# EAGLE library part PCA9685 (library Library)
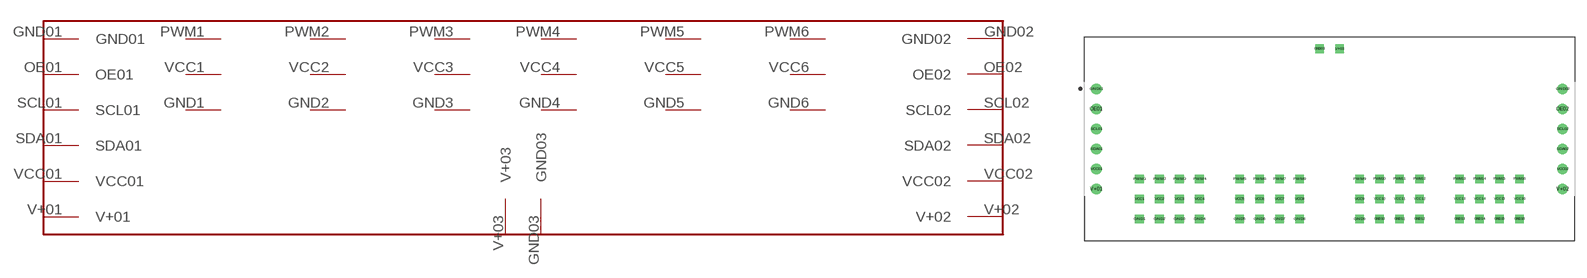
[diagram p1: symbol with the pads of DIP5918W53P254L2279H300Q12B; footprint DIP5918W53P254L2279H300Q12B]

Designator prefix -

## PCA9685PCA9685  [DIP5918W53P254L2279H300Q12B]
GND1  GND$1
GND01  GND01
GND2  GND$2
GND02  GND02
GND3  GND$3
GND03  GND03
GND4  GND$4
GND5  GND$5
GND6  GND$6
OE01  OE01
OE02  OE02
PWM1  PWM$1
PWM2  PWM$2
PWM3  PWM$3
PWM4  PWM$4
PWM5  PWM$5
PWM6  PWM$6
SCL01  SCL01
SCL02  SCL02
SDA01  SDA01
SDA02  SDA02
V+01  V+01
V+02  V+02
V+03  V+03
VCC1  VCC$1
VCC01  VCC01
VCC2  VCC$2
VCC02  VCC02
VCC3  VCC$3
VCC4  VCC$4
VCC5  VCC$5
VCC6  VCC$6

## Footprint DIP5918W53P254L2279H300Q12B (pad centres in mm)
12-DIP, 2.54 mm (0.10 in) pitch, 59.18 mm (2.33 in) span, 22.80 X 34.41 X 3.00 mm body 12-pin DIP package with 2.54 mm (0.10 in) pitch, 59.18 mm (2.33 in) span with body size 22.80 X 34.41 X 3.00 mm
drill 0.743 pad 1.343: GND01 -29.591,6.35; GND02 29.591,6.35; OE01 -29.591,3.81; OE02 29.591,3.81; SCL01 -29.591,1.27; SCL02 29.591,1.27; SDA01 -29.591,-1.27; SDA02 29.591,-1.27; V+01 -29.591,-6.35; V+02 29.591,-6.35; VCC01 -29.591,-3.81; VCC02 29.591,-3.81
drill 0.6 square: GND1 -24.13,-10.16; GND2 -21.59,-10.16; GND3 -19.05,-10.16; GND03 -1.27,11.43; GND4 -16.51,-10.16; GND5 -11.43,-10.16; GND6 -8.89,-10.16; GND7 -6.35,-10.16; GND8 -3.81,-10.16; GND9 3.81,-10.16; GND10 6.35,-10.16; GND11 8.89,-10.16; GND12 11.43,-10.16; GND13 16.51,-10.16; GND14 19.05,-10.16; GND15 21.59,-10.16; GND16 24.13,-10.16; PWM1 -24.13,-5.08; PWM2 -21.59,-5.08; PWM3 -19.05,-5.08; PWM4 -16.51,-5.08; PWM5 -11.43,-5.08; PWM6 -8.89,-5.08; PWM7 -6.35,-5.08; PWM8 -3.81,-5.08; PWM9 3.81,-5.08; PWM10 6.35,-5.08; PWM11 8.89,-5.08; PWM12 11.43,-5.08; PWM13 16.51,-5.08; PWM14 19.05,-5.08; PWM15 21.59,-5.08; PWM16 24.13,-5.08; V+03 1.27,11.43; VCC1 -24.13,-7.62; VCC2 -21.59,-7.62; VCC3 -19.05,-7.62; VCC4 -16.51,-7.62; VCC5 -11.43,-7.62; VCC6 -8.89,-7.62; VCC7 -6.35,-7.62; VCC8 -3.81,-7.62; VCC9 3.81,-7.62; VCC10 6.35,-7.62; VCC11 8.89,-7.62; VCC12 11.43,-7.62; VCC13 16.51,-7.62; VCC14 19.05,-7.62; VCC15 21.59,-7.62; VCC16 24.13,-7.62